# Altium schematic symbol library POWER JACK.Schlib: 1 symbol
Pins are listed as number, name and electrical type; pins without a type are passive.

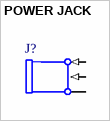
[diagram p0: symbol POWER JACK]

## POWER JACK
designator J?  (value not drawn)
pins: 1 +V (in) "Center Pin (Plug Tip)", 2 GND (in) "Center Pin (Plug Tip)", 3 GND (power) "Outer Shield (Sleeve)"